# Altium footprint library SMSA.PcbLib: 1 footprints
Each footprint in its own frame and in the unit in brackets; x right, y up, seen from the top. Pads: shape width x height; smd on the part's side, far side on the other; paste and mask are expansions set on the pad; w line width, h text height; cw(c..) or ccw(c..) is an arc to the next point about the centre after c.
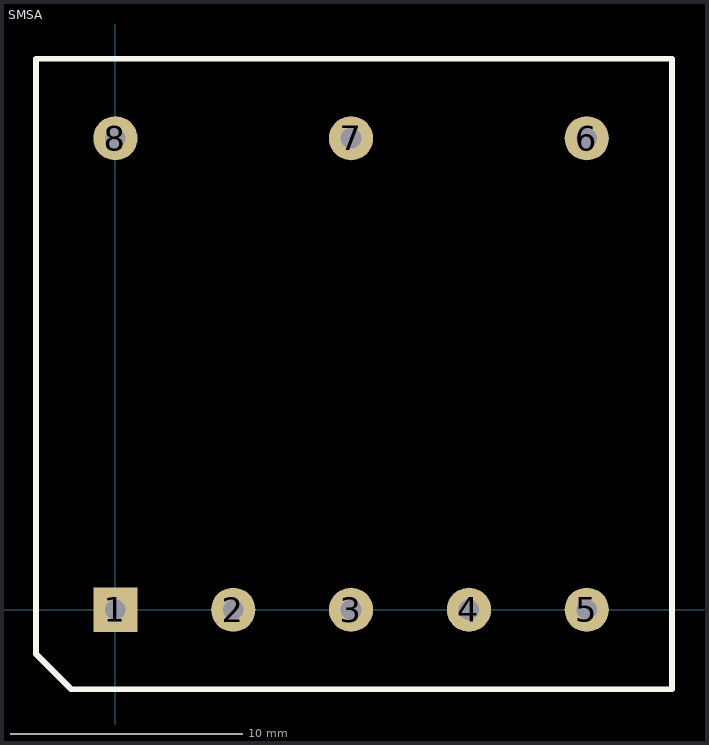
[diagram p0: the footprint, top view; thin cyan lines are the x and y axes]

## SMSA [mil]
pads (8):
  rect 75x75 hole 35: 1(0,0)
  round 75 hole 35: 2(200,0) 3(400,0) 4(600,0) 5(800,0) 6(800,800) 7(400,800) 8(0,800)
Top Overlay:
  lines w10: -135,-75 -135,935 945,935 945,-135 -75,-135 -135,-75
3D body: height 270, standoff 0, extent -135,-135 945,935